# EAGLE library part BOARD-MICROSD (library mylib)
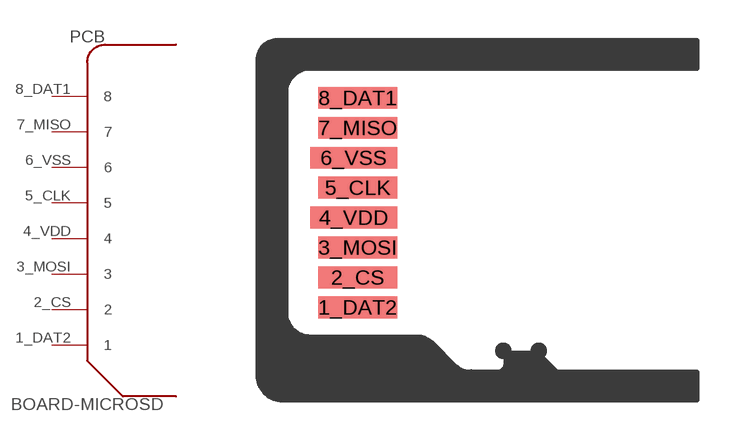
[diagram p107: symbol with the pads of BOARD-MICROSD; footprint BOARD-MICROSD]

Designator prefix PCB

## BOARD-MICROSD  [BOARD-MICROSD]
1_DAT2  1
2_CS  2
3_MOSI  3
4_VDD  4  pwr
5_CLK  5
6_VSS  6  pwr
7_MISO  7
8_DAT1  8

## Footprint BOARD-MICROSD (pad centres in mm)
smd 2.9 x 0.8: 1_DAT2 2.55,2.3; 2_CS 2.55,3.4; 3_MOSI 2.55,4.5; 5_CLK 2.55,6.7; 7_MISO 2.55,8.9; 8_DAT1 2.55,10
smd 3.2 x 0.8: 4_VDD 2.4,5.6; 6_VSS 2.4,7.8